# Altium schematic symbol library FUNCTION GENERATOR.SchLib: 4 symbols
Pins are listed as number, name and electrical type; pins without a type are passive.

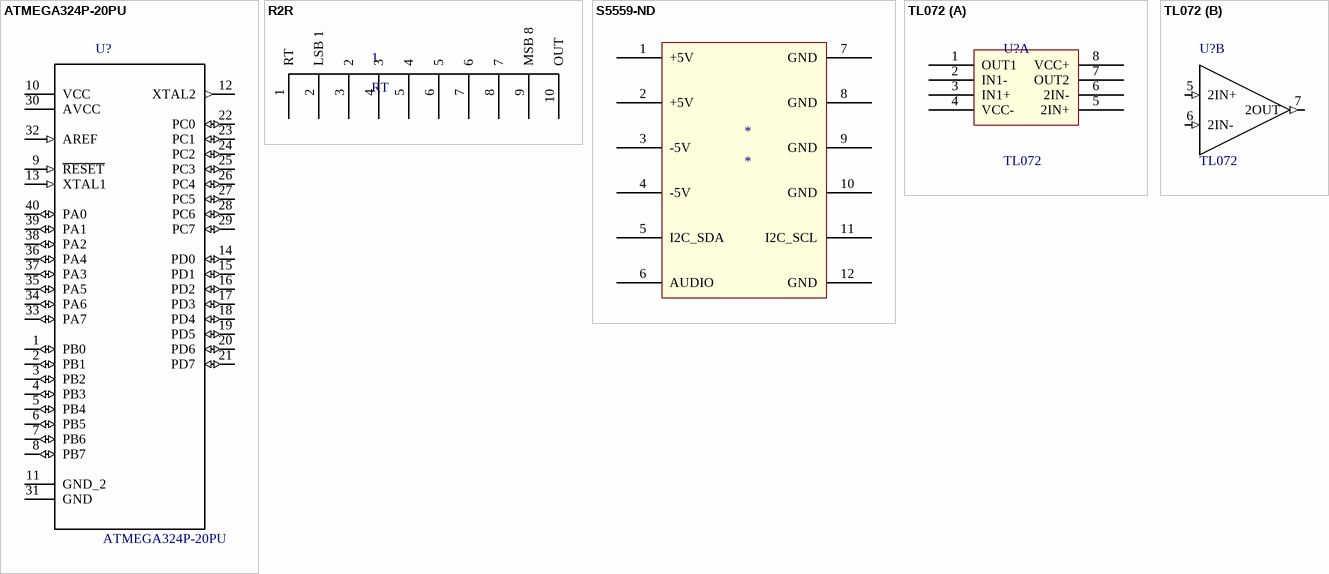
[diagram p0: symbols ATMEGA324P-20PU to TL072]

## ATMEGA324P-20PU
designator U?
ATmega Series 20 MHz 32 KB Flash 2 KB SRAM 8-Bit Microcontroller - DIP-40; MF: Microchip; SnapEDA_Link: https://www.snapeda.com/parts/ATMEGA324P-20PU/Microchip/view-part/?ref=snap; Availability: Unavailable; MP: ATMEGA324P-20PU; Price: None; Package: DIP-40 Microchip; Value: *
footprint DIP254P1524X482-40
pins: 1 PB0 (io), 2 PB1 (io), 3 PB2 (io), 4 PB3 (io), 5 PB4 (io), 6 PB5 (io), 7 PB6 (io), 8 PB7 (io), 9 ~{RESET} (in), 10 VCC (power), 11 GND_2, 12 XTAL2 (out), 13 XTAL1 (in), 14 PD0 (io), 15 PD1 (io), 16 PD2 (io), 17 PD3 (io), 18 PD4 (io), 19 PD5 (io), 20 PD6 (io), 21 PD7 (io), 22 PC0 (io), 23 PC1 (io), 24 PC2 (io), 25 PC3 (io), 26 PC4 (io), 27 PC5 (io), 28 PC6 (io), 29 PC7 (io), 30 AVCC (power), 31 GND, 32 AREF (in), 33 PA7 (io), 34 PA6 (io), 35 PA5 (io), 36 PA4 (io), 37 PA3 (io), 38 PA2 (io), 39 PA1 (io), 40 PA0 (io)

## R2R
designator 1, comment RT
footprint R2R
pins: 1 RT, 2 LSB 1, 3 2, 4 3, 5 4, 6 5, 7 6, 8 7, 9 MSB 8, 10 OUT

## S5559-ND
designator *
pins: 1 +5V, 2 +5V, 3 -5V, 4 -5V, 5 I2C_SDA, 6 AUDIO, 7 GND, 8 GND, 9 GND, 10 GND, 11 I2C_SCL, 12 GND

## TL072
designator U?
Wide Bandwidth Dual JFET Input Operational Amplifier 8-PDIP 0 to 70; MF: Texas Instruments; Price: None; MP: TL072; SnapEDA_Link: https://www.snapeda.com/parts/TL072/Texas%2520Instruments/view-part/?ref=snap; Package: None; Availability: Unavailable; Value: *
footprint DIP794W45P254L1060H508Q8
signal-integrity model TL072 (Model Description)
part A pins: 1 OUT1, 2 IN1-, 3 IN1+, 4 VCC-, 5 2IN+, 6 2IN-, 7 OUT2, 8 VCC+
part B pins: 5 2IN+ (in), 6 2IN- (in), 7 2OUT (out)